# Altium schematic symbol library CL05A106MP6NUN8.SchLib: 1 symbol
Pins are listed as number, name and electrical type; pins without a type are passive.

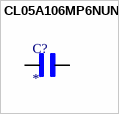
[diagram p0: symbol CL05A106MP6NUN8]

## CL05A106MP6NUN8
designator C?
MF: {'manufacturer': u'Samsung Electro-Mechanics'}; MP: CL05A106MP6NUN8; Package: None; Price: None; Value: *; Availability: Unavailable
footprint CAPC1005X80N
pins: 1, 2